# EAGLE library part FTDI_FRIEND_JACK (library Dal_V2)
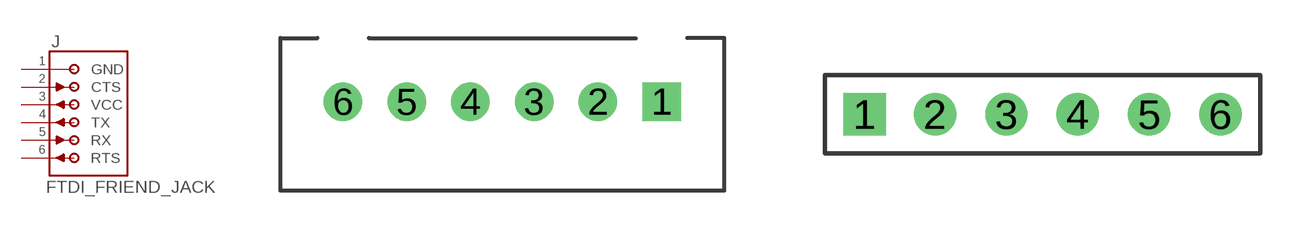
[diagram p6: symbol with the pads of JST-XH_098_VERT_1X6; footprints JST-XH_098_VERT_1X6, PINHDR_TH_100_1X6]

Designator prefix J

## FTDI_FRIEND_JACK-JST  [JST-XH_098_VERT_1X6]
1  RTS  out
2  RX  in
3  TX  out
4  VCC  out
5  CTS  pas
6  GND  pas

## FTDI_FRIEND_JACK  [PINHDR_TH_100_1X6]
1  GND  pas
2  CTS  pas
3  VCC  out
4  TX  out
5  RX  in
6  RTS  out

## Footprint JST-XH_098_VERT_1X6 (pad centres in mm)
JST Connector, XH Series, 0.098 Inch, 1x6
drill 1 square: 1 0,0
drill 1: 2 -2.5,0; 3 -5,0; 4 -7.5,0; 5 -10,0; 6 -12.5,0

## Footprint PINHDR_TH_100_1X6 (pad centres in mm)
drill 1 square: 1 0.02,0
drill 1: 2 2.52,0; 3 5.06,0; 4 7.6,0; 5 10.14,0; 6 12.68,0